# Altium footprint library WE-TPC-S.PcbLib: 1 footprints
Each footprint in its own frame and in the unit in brackets; x right, y up, seen from the top. Pads: shape width x height; smd on the part's side, far side on the other; paste and mask are expansions set on the pad; w line width, h text height; cw(c..) or ccw(c..) is an arc to the next point about the centre after c.
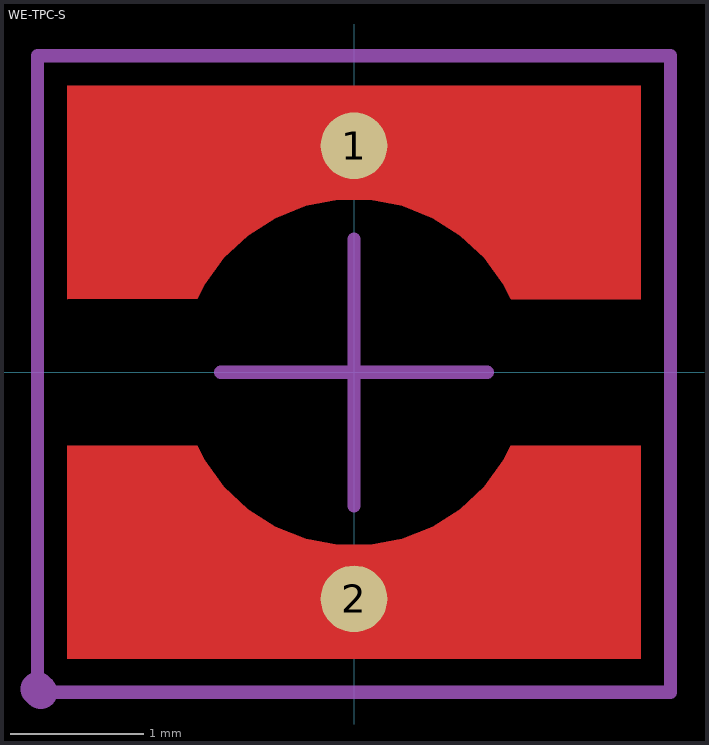
[diagram p0: the footprint, top view; thin cyan lines are the x and y axes]

## WE-TPC-S [mm] "Wurth Electronics TPC power inductor size s"
height 1.65
pads (2):
  round 0.5 smd: 1(0,1.7) 2(0,-1.7)
Top Layer:
  region: 2.15,-0.55 2.15,-2.15 -2.15,-2.15 -2.15,-0.55 -1.179,-0.55 -1.177,-0.551 -1.12,-0.66 -0.976,-0.858 -0.798,-1.026 -0.591,-1.158 -0.363,-1.248 -0.123,-1.294 0.123,-1.294 0.363,-1.248 0.591,-1.158 0.798,-1.026 0.976,-0.858 1.12,-0.66 1.177,-0.551
  region: -2.15,0.55 -2.15,2.15 2.15,2.15 2.15,0.55 1.179,0.55 1.177,0.551 1.12,0.66 0.976,0.858 0.798,1.026 0.591,1.158 0.363,1.248 0.123,1.294 -0.123,1.294 -0.363,1.248 -0.591,1.158 -0.798,1.026 -0.976,0.858 -1.12,0.66 -1.177,0.551
Top Courtyard:
  lines w0.1: -2.375,-2.375 -2.375,2.375 2.375,2.375 2.375,-2.4 -2.35,-2.4 ; -1,0 1,0 ; 0,-1 0,1
  lines w0.254: -2.375,-2.375 -2.35,-2.4
3D body "WE-TPC_3816.stp": height 1.65, standoff 0, extent -1.9,-1.9 1.9,1.9